# Altium integrated library Resisitor.IntLib: 5 symbols
Pins are listed as number, name and electrical type; pins without a type are passive.

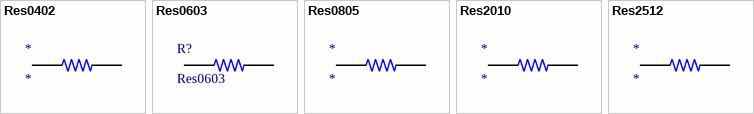
[diagram p0: symbols Res0402 to Res2512]

## Res0402
designator *
footprint Res0402
pins: 1, 2

## Res0603
designator R?
footprint Res0603
pins: 1, 2

## Res0805
designator *
footprint Res0805
pins: 1, 2

## Res2010
designator *
footprint RES2010
pins: 1, 2

## Res2512
designator *
footprint Res2512
pins: 1, 2